# EAGLE library part SST39SF040-70-4C-NHE (library SST39SF040_PLCC)
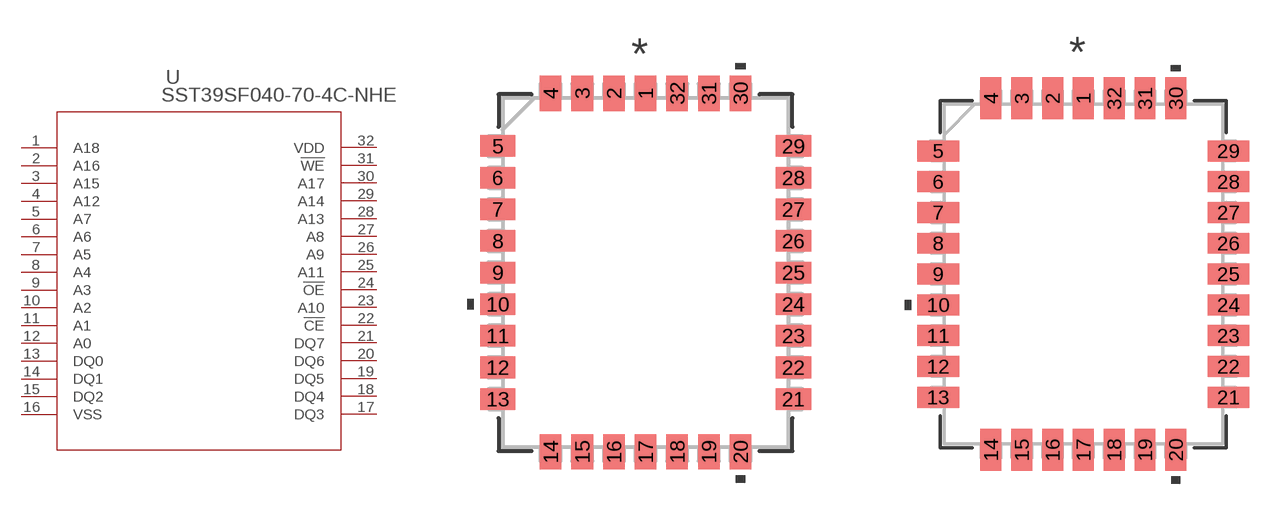
[diagram p0: symbol with the pads of PLCC32_NH_SST_MCH; footprints PLCC32_NH_SST_MCH, PLCC32_NH_SST_MCH-M]

Designator prefix U

## SST39SF040-70-4C-NHE (COPYRIGHT: Copyright (C) 2022 Ultra Librarian. All rights reserved.; MANUFACTURER_PART_NUMBER: sst39sf040-70-4c-nhe; MFR_NAME: Microchip)  [PLCC32_NH_SST_MCH]
1  A18  in
2  A16  in
3  A15  in
4  A12  in
5  A7  in
6  A6  in
7  A5  in
8  A4  in
9  A3  in
10  A2  in
11  A1  in
12  A0  in
13  DQ0
14  DQ1
15  DQ2
16  VSS  pwr
17  DQ3
18  DQ4
19  DQ5
20  DQ6
21  DQ7
22  !CE  in
23  A10  in
24  !OE  in
25  A11  in
26  A9  in
27  A8  in
28  A13  in
29  A14  in
30  A17  in
31  !WE  in
32  VDD  pwr

## SST39SF040-70-4C-NHEPLCC32_NH_SST_MCH-M (COPYRIGHT: Copyright (C) 2022 Ultra Librarian. All rights reserved.; MANUFACTURER_PART_NUMBER: sst39sf040-70-4c-nhe; MFR_NAME: Microchip)  [PLCC32_NH_SST_MCH-M]
Pads as for PLCC32_NH_SST_MCH

## SST39SF040-70-4C-NHEPLCC32_NH_SST_MCH-L (COPYRIGHT: Copyright (C) 2022 Ultra Librarian. All rights reserved.; MANUFACTURER_PART_NUMBER: sst39sf040-70-4c-nhe; MFR_NAME: Microchip)  [PLCC32_NH_SST_MCH-L]
Pads as for PLCC32_NH_SST_MCH

## Footprint PLCC32_NH_SST_MCH (pad centres in mm)
smd 0.864 x 1.422: 1 0,7.201; 2 -1.27,7.201; 3 -2.54,7.201; 4 -3.81,7.201; 14 -3.81,-7.201; 15 -2.54,-7.201; 16 -1.27,-7.201; 17 0,-7.201; 18 1.27,-7.201; 19 2.54,-7.201; 20 3.81,-7.201; 30 3.81,7.201; 31 2.54,7.201; 32 1.27,7.201
smd 1.422 x 0.864: 5 -5.931,5.08; 6 -5.931,3.81; 7 -5.931,2.54; 8 -5.931,1.27; 9 -5.931,0; 10 -5.931,-1.27; 11 -5.931,-2.54; 12 -5.931,-3.81; 13 -5.931,-5.08; 21 5.931,-5.08; 22 5.931,-3.81; 23 5.931,-2.54; 24 5.931,-1.27; 25 5.931,0; 26 5.931,1.27; 27 5.931,2.54; 28 5.931,3.81; 29 5.931,5.08

## Footprint PLCC32_NH_SST_MCH-M (pad centres in mm)
smd 0.864 x 1.727: 1 0,7.252; 2 -1.27,7.252; 3 -2.54,7.252; 4 -3.81,7.252; 14 -3.81,-7.252; 15 -2.54,-7.252; 16 -1.27,-7.252; 17 0,-7.252; 18 1.27,-7.252; 19 2.54,-7.252; 20 3.81,-7.252; 30 3.81,7.252; 31 2.54,7.252; 32 1.27,7.252
smd 1.727 x 0.864: 5 -5.982,5.08; 6 -5.982,3.81; 7 -5.982,2.54; 8 -5.982,1.27; 9 -5.982,0; 10 -5.982,-1.27; 11 -5.982,-2.54; 12 -5.982,-3.81; 13 -5.982,-5.08; 21 5.982,-5.08; 22 5.982,-3.81; 23 5.982,-2.54; 24 5.982,-1.27; 25 5.982,0; 26 5.982,1.27; 27 5.982,2.54; 28 5.982,3.81; 29 5.982,5.08

## Footprint PLCC32_NH_SST_MCH-L (pad centres in mm)
smd 0.813 x 1.118: 1 0,7.15; 2 -1.27,7.15; 3 -2.54,7.15; 4 -3.81,7.15; 14 -3.81,-7.15; 15 -2.54,-7.15; 16 -1.27,-7.15; 17 0,-7.15; 18 1.27,-7.15; 19 2.54,-7.15; 20 3.81,-7.15; 30 3.81,7.15; 31 2.54,7.15; 32 1.27,7.15
smd 1.118 x 0.813: 5 -5.88,5.08; 6 -5.88,3.81; 7 -5.88,2.54; 8 -5.88,1.27; 9 -5.88,0; 10 -5.88,-1.27; 11 -5.88,-2.54; 12 -5.88,-3.81; 13 -5.88,-5.08; 21 5.88,-5.08; 22 5.88,-3.81; 23 5.88,-2.54; 24 5.88,-1.27; 25 5.88,0; 26 5.88,1.27; 27 5.88,2.54; 28 5.88,3.81; 29 5.88,5.08